# Altium schematic symbol library USB-A.SCHLIB: 1 symbol
Pins are listed as number, name and electrical type; pins without a type are passive.

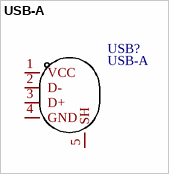
[diagram p0: symbol USB-A]

## USB-A
designator USB?
Add into BOM: yes; Symbol: USB-A; Device: USB-A; LCSC Part Name: USB-A; Supplier Part: C9900005029; Manufacturer Part: USB-A; Supplier Footprint: USB-A沉板母座; Supplier: LCSC; Convert to PCB: yes; Name: USB-A
footprint USB-A-TH_SIDE-SINK-USB-A
pins: 1 VCC, 2 D-, 3 D+, 4 GND, 5 SH